# EAGLE library part TC4429 (library newchips)
Microchip 6A High-Speed MOSFET Drivers (inverting)
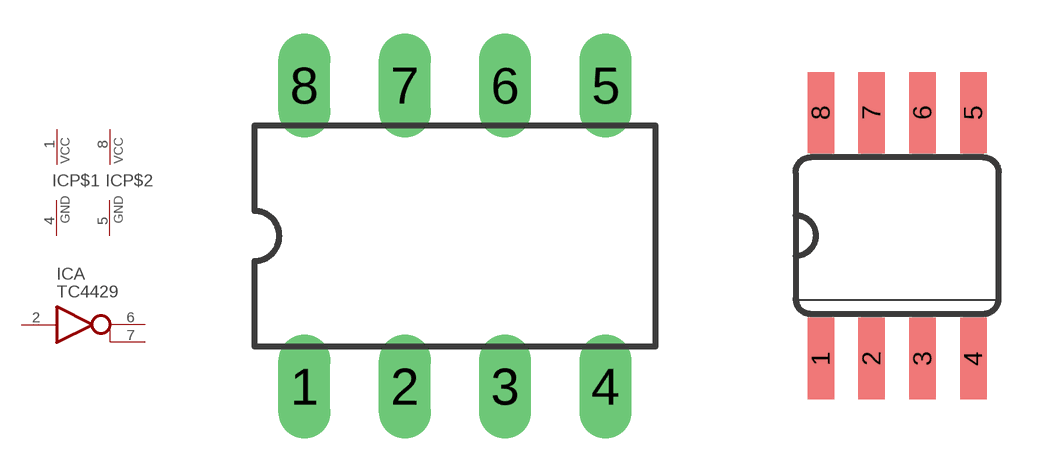
[diagram p30: symbol with the pads of DIP08; footprints DIP08, SO08]

Designator prefix IC; gates A=TC4429 P$1=PWRN P$2=PWRN

## TC4429PA  [DIP08]
1  P$1:VCC  pwr
2  A:IN  in
4  P$1:GND  pwr
5  P$2:GND  pwr
6  A:OUT1  out
7  A:OUT2  out
8  P$2:VCC  pwr

## TC4429OA  [SO08]
Pads as for DIP08

## TC4429MF  [DFN8-6X5]
Pads as for DIP08

## Footprint DIP08 (pad centres in mm)
drill 0.813 long: 1 -3.81,-3.81; 2 -1.27,-3.81; 3 1.27,-3.81; 4 3.81,-3.81; 5 3.81,3.81; 6 1.27,3.81; 7 -1.27,3.81; 8 -3.81,3.81

## Footprint SO08 (pad centres in mm)
smd 0.66 x 2.032: 1 -1.905,-3.073; 2 -0.635,-3.073; 3 0.635,-3.073; 4 1.905,-3.073; 5 1.905,3.073; 6 0.635,3.073; 7 -0.635,3.073; 8 -1.905,3.073

## Footprint DFN8-6X5 (pad centres in mm)
DFN8 4x4 mm DRM (S-PDSO-N8) Source: opa277.pdf
smd 0.635 x 2.032: 1 -1.905,-3.175; 2 -0.635,-3.175; 3 0.635,-3.175; 4 1.905,-3.175; 5 1.905,3.175; 6 0.635,3.175; 7 -0.635,3.175; 8 -1.905,3.175
smd 4.572 x 2.794: TH 0,0